# EAGLE library part MCP9808 (library VFD-Clock)
Microchip Temperature Sensor
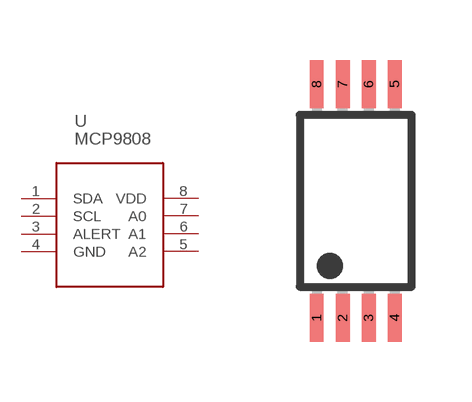
[diagram p4: symbol with the pads of TSSOP8; footprint TSSOP8]

Designator prefix -

## MCP9808  [TSSOP8]
1  SDA
2  SCL
3  ALERT
4  GND
5  A2
6  A1
7  A0
8  VDD

## Footprint TSSOP8 (pad centres in mm)
Thin Shrink Small Outline Package package type ST
smd 0.35 x 1.2: 1 -0.975,-2.925; 2 -0.325,-2.925; 3 0.325,-2.925; 4 0.975,-2.925; 5 0.975,2.925; 6 0.325,2.925; 7 -0.325,2.925; 8 -0.975,2.925